# EAGLE library part LTC1387IG (library RF_Wireless)
Single 5V RS232/RS485 Multiprotocol Transceiver Datasheet <https://www.analog.com/media/en/technical-documentation/data-sheets/1387fs.pdf>
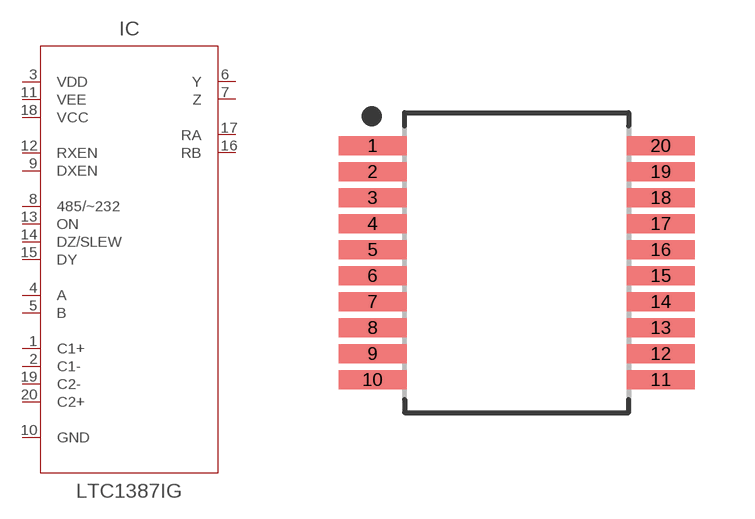
[diagram p1: symbol with the pads of SOP65P780X200-20N; footprint SOP65P780X200-20N]

Designator prefix IC

## LTC1387IG_SSOP-20 (CATEGORY: RF_Wireless; MANUFACTURER: Linear Technologies; MPN: ltc13817i; OPERATING_TEMP: –40 to 85°C; PART_STATUS: Active; ROHS_COMPLIANT: RoHS3 Compliant; SUB-CATEGORY: Transceiver)  [SOP65P780X200-20N]
1  C1+  pas
2  C1-  pas
3  VDD  pwr
4  A  in
5  B  in
6  Y  out
7  Z  out
8  485/~232  in
9  DXEN  in
10  GND  pas
11  VEE  out
12  RXEN  in
13  ON  in
14  DZ/SLEW  in
15  DY  in
16  RB  out
17  RA  out
18  VCC  pwr
19  C2-  pas
20  C2+  pas

## Footprint SOP65P780X200-20N (pad centres in mm)
20-SOP, 0.65 mm pitch, 7.80 mm span, 7.20 X 5.30 X 2.00 mm body 20-pin SOP package with 0.65 mm pitch, 7.80 mm span with body size 7.20 X 5.30 X 2.00 mm
smd 1.702 x 0.475: 1 -3.603,2.925; 2 -3.603,2.275; 3 -3.603,1.625; 4 -3.603,0.975; 5 -3.603,0.325; 6 -3.603,-0.325; 7 -3.603,-0.975; 8 -3.603,-1.625; 9 -3.603,-2.275; 10 -3.603,-2.925; 11 3.603,-2.925; 12 3.603,-2.275; 13 3.603,-1.625; 14 3.603,-0.975; 15 3.603,-0.325; 16 3.603,0.325; 17 3.603,0.975; 18 3.603,1.625; 19 3.603,2.275; 20 3.603,2.925